# Altium schematic symbol library Button.schlib: 2 symbols
Pins are listed as number, name and electrical type; pins without a type are passive.

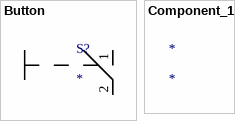
[diagram p0: symbols Button to Component_1]

## Button
designator S?
footprint SW_TL59NF160Q
pins: 1, 2

## Component_1
designator *